# Altium integrated library TI Data Converters Analog to Digital Converter.IntLib: 2198 symbols (part 10 of 164)
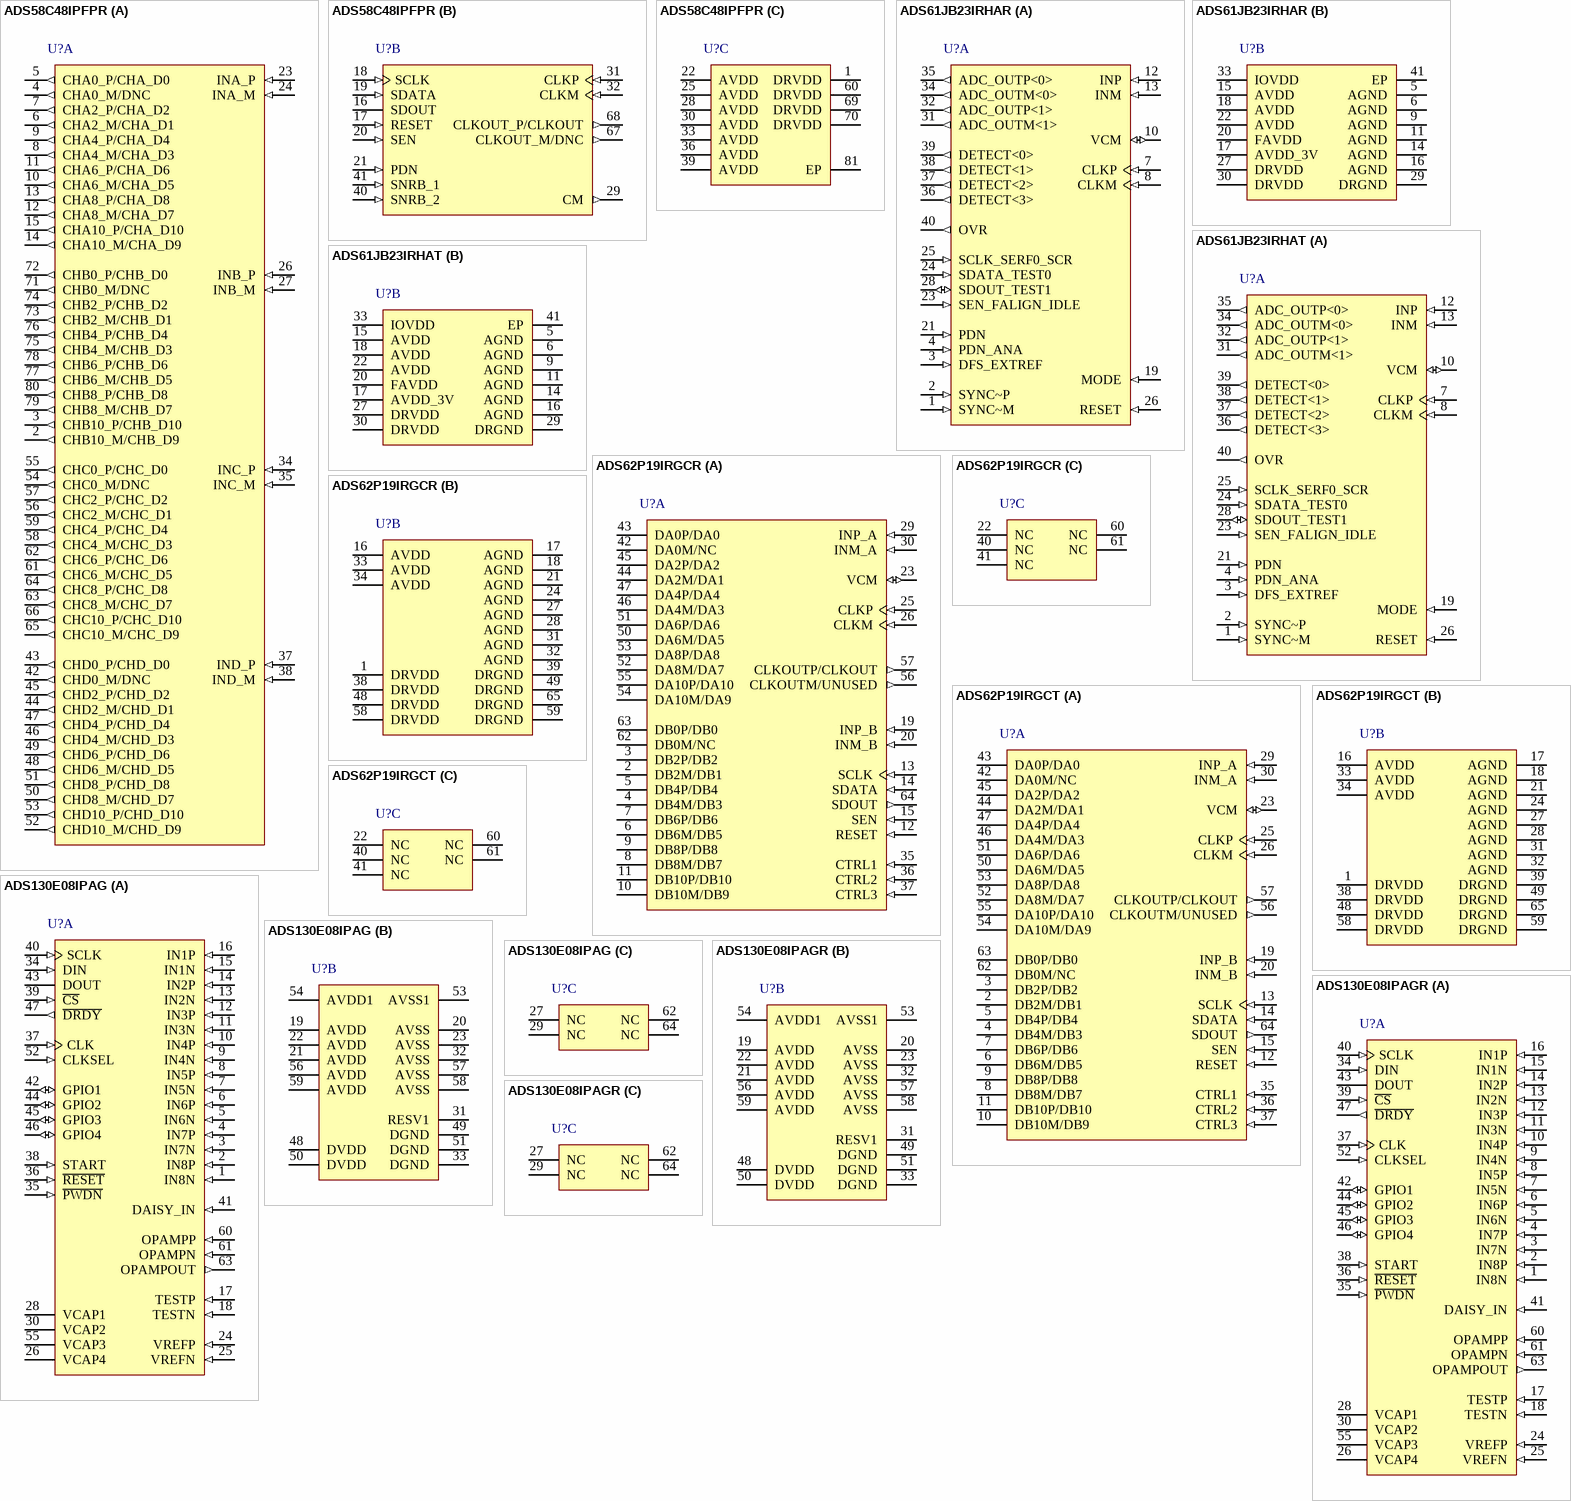
[diagram p135: symbols ADS58C48IPFPR to ADS130E08IPAGR]

## ADS62P19IRGCT
designator U?
Dual Channel 11-Bit, 250 MSPS ADC with DDR LVDS and Parallel CMOS Output, -40 to 85 degC, 64-pin QFN (RGC64), Green (RoHS & no Sb/Br); Manufacturer: Texas Instruments; PartNumber: ADS62P19IRGCT; # Input Channels: 2; Analog Voltage AV/DD(Max)(V): 3.6; Analog Voltage AV/DD(Min)(V): 3.15; Architecture: Pipeline; Digital Supply(Max)(V): 1.9; Digital Supply(Min)(V): 1.7; ENOB(Bits): 10.6; INL(Max)(+/-LSB): 2.5; Interface: CMOS, DDR LVDS; Resolution(Bits): 11; Sample Rate(max)(SPS): 250M; SFDR(dB): 89; SINAD(dB): 66.5; SubFamily: High Speed ADC (>10MSPS); DatasheetVersion: SLAS937; PackageVersion: 4204106/F, 11/2011; PackageReference: RGC64-7400X7400TP; PackageDescription: 64-Pin Plastic Quad Flatpack No-Lead, Body 9 x 9 mm, Pitch 0.5 mm; Supplier 1: Digi-Key; Supplier Part Number 1: ADS1110A5IDBVR-ND; Eco-Plan: Green (RoHS & no Sb/Br); SNR(dB): 66.5; Mounting Technology: Surface Mount; ComponentLink1Description: Manufacturer URL; ComponentLink1URL: http://www.ti.com/; ComponentLink2Description: Datasheet; ComponentLink2URL: http://www.ti.com/lit/ds/symlink/ads62p19.pdf; ComponentLink3Description: Package Specification; ComponentLink3URL: http://www.ti.com/litv/pdf/mpqf125e
footprint TI-RGC64-7400X7400TP_V (QFN, 64-Leads, Body 9x9mm, Pitch 0.5mm, Thermal Pad 7.4x7.4mm, TI Recommended)
part A pins: 2 DB2M/DB1 (hiz), 3 DB2P/DB2 (hiz), 4 DB4M/DB3 (hiz), 5 DB4P/DB4 (hiz), 6 DB6M/DB5 (hiz), 7 DB6P/DB6 (hiz), 8 DB8M/DB7 (hiz), 9 DB8P/DB8 (hiz), 10 DB10M/DB9 (hiz), 11 DB10P/DB10 (hiz), 12 RESET (in) "Serial interface RESET input. When using the serial interface mode, the internal registers must be initialized through a hardware RESET by applying a high-going pulse on this pin or by using a software reset option. Refer to (See Datasheet)", 13 SCLK (in) "This pin functions as a serial interface clock input when RESET is low. SCLK controls the internal or external reference selection when RESET is tied high. See Table 8 for detailed information. This pin has an internal 100-k (See Datasheet)", 14 SDATA (in) "Serial interface data input. This pin has an internal 100-k ohm pull-down resistor. SDATA has no function in parallel interface mode and can be tied to ground.", 15 SEN (in) "This pin functions as a serial interface enable input when RESET is low. SEN controls data format and interface type selection when RESET is tied high. See Table 9 for detailed information. This pin has an internal 100-k ohm (See Datasheet)", 19 INP_B (in) "Differential analog input, channel B", 20 INM_B (in) "Differential analog input, channel B", 23 VCM (io) "Internal reference mode. Common-mode voltage output. External reference mode. Reference input; the voltage forced on this pin sets the internal references.", 25 CLKP (in) "Differential clock input", 26 CLKM (in) "Differential clock input", 29 INP_A (in) "Differential analog input, channel A", 30 INM_A (in) "Differential analog input, channel A", 35 CTRL1 (in) "Digital control input pins. Together, these pins control various power-down modes. Each pin has an internal 100-k ohm pull-down resistor.", 36 CTRL2 (in) "Digital control input pins. Together, these pins control various power-down modes. Each pin has an internal 100-k ohm pull-down resistor.", 37 CTRL3 (in) "Digital control input pins. Together, these pins control various power-down modes. Each pin has an internal 100-k ohm pull-down resistor.", 42 DA0M/NC (hiz), 43 DA0P/DA0 (hiz), 44 DA2M/DA1 (hiz), 45 DA2P/DA2 (hiz), 46 DA4M/DA3 (hiz), 47 DA4P/DA4 (hiz), 50 DA6M/DA5 (hiz), 51 DA6P/DA6 (hiz), 52 DA8M/DA7 (hiz), 53 DA8P/DA8 (hiz), 54 DA10M/DA9 (hiz), 55 DA10P/DA10 (hiz), 56 CLKOUTM/UNUSED (out), 57 CLKOUTP/CLKOUT (out) "Differential output clock, true", 62 DB0M/NC (hiz), 63 DB0P/DB0 (hiz), 64 SDOUT (out) "This pin functions as a serial interface register readout when the SERIAL READOUT bit is enabled. When SERIAL READOUT is '0', this pin forces a logic low and is not 3- stated."
part B pins: 1 DRVDD (power) "Output buffer supply", 16 AVDD (power) "Analog power supply", 17 AGND (power) "Analog ground", 18 AGND (power) "Analog ground", 21 AGND (power) "Analog ground", 24 AGND (power) "Analog ground", 27 AGND (power) "Analog ground", 28 AGND (power) "Analog ground", 31 AGND (power) "Analog ground", 32 AGND (power) "Analog ground", 33 AVDD (power) "Analog power supply", 34 AVDD (power) "Analog power supply", 38 DRVDD (power) "Output buffer supply", 39 DRGND (power) "Output buffer ground", 48 DRVDD (power) "Output buffer supply", 49 DRGND (power) "Output buffer ground", 58 DRVDD (power) "Output buffer supply", 59 DRGND (power) "Output buffer ground", 65 DRGND (power) "Output buffer ground"
part C pins: 22 NC "Do not connect", 40 NC "Do not connect", 41 NC "Do not connect", 60 NC "Do not connect", 61 NC "Do not connect"

## ADS130E08IPAG
designator U?
Low-Cost, 8-Channel, Integrated Analog Front-End for Metering Applications, -40 to 105 degC, 64-pin QFP (PAG64), Green (RoHS & no Sb/Br); Manufacturer: Texas Instruments; PartNumber: ADS130E08IPAG; # Input Channels: 8; Analog Voltage AV/DD(Max)(V): 5.25; Analog Voltage AV/DD(Min)(V): 2.7; Architecture: Delta-Sigma; Digital Supply(Max)(V): 3.6; Digital Supply(Min)(V): 1.7; Interface: Serial SPI; Resolution(Bits): 16; Sample Rate(max)(SPS): 8k; SNR(dB): 89; SubFamily: Precision ADC (<=10MSPS); DatasheetVersion: SBAS574A; PackageVersion: 4040282/C, 11/1996; PackageReference: PAG64; PackageDescription: 64-Pin Plastic Flat Pack, Body 10 x 10 mm, Pitch 0.50 mm; Supplier 1: Digi-Key; Supplier Part Number 1: ADS1110A5IDBVRG4-ND; Eco-Plan: Green (RoHS & no Sb/Br); Mounting Technology: Surface Mount; Code_JEDEC: MS-026; ComponentLink1Description: Manufacturer URL; ComponentLink1URL: http://www.ti.com/; ComponentLink2Description: Datasheet; ComponentLink2URL: http://www.ti.com/lit/ds/symlink/ads130e08.pdf; ComponentLink3Description: Package Specification; ComponentLink3URL: http://www.ti.com/lit/ml/mtqf006a/mtqf006a.pdf
footprint TI-PAG64_N (QFP, 64-Leads, Body 10x10mm, Pitch 0.5mm, IPC Medium Density)
footprint TI-PAG64_L (QFP, 64-Leads, Body 10x10mm, Pitch 0.5mm, IPC High Density)
footprint TI-PAG64_M (QFP, 64-Leads, Body 10x10mm, Pitch 0.5mm, IPC Low Density)
part A pins: 1 IN8N (in) "Differential analog negative input 8", 2 IN8P (in) "Differential analog positive input 8", 3 IN7N (in) "Differential analog negative input 7", 4 IN7P (in) "Differential analog positive input 7", 5 IN6N (in) "Differential analog negative input 6", 6 IN6P (in) "Differential analog positive input 6", 7 IN5N (in) "Differential analog negative input 5", 8 IN5P (in) "Differential analog positive input 5", 9 IN4N (in) "Differential analog negative input 4", 10 IN4P (in) "Differential analog positive input 4", 11 IN3N (in) "Differential analog negative input 3", 12 IN3P (in) "Differential analog positive input 3", 13 IN2N (in) "Differential analog negative input 2", 14 IN2P (in) "Differential analog positive input 2", 15 IN1N (in) "Differential analog negative input 1", 16 IN1P (in) "Differential analog positive input 1", 17 TESTP (in) "Internal test signal, positive signal", 18 TESTN (in) "Internal test signal, negative signal", 24 VREFP (in) "Positive reference voltage", 25 VREFN (in) "Negative reference voltage", 26 VCAP4 "Analog bypass capacitor", 28 VCAP1 "Analog bypass capacitor", 30 VCAP2 "Analog bypass capacitor", 34 DIN (in) "SPI data in", 35 ~{PWDN} (in) "Power-down; active low", 36 ~{RESET} (in) "System reset; active low", 37 CLK (in) "Master clock input", 38 START (in) "Start conversion", 39 ~{CS} (in) "SPI chip select; active low", 40 SCLK (in) "SPI clock", 41 DAISY_IN (in) "Daisy-chain input", 42 GPIO1 (io) "General-purpose input/output pin", 43 DOUT (hiz) "SPI data out", 44 GPIO2 (io) "General-purpose input/output pin", 45 GPIO3 (io) "General-purpose input/output pin", 46 GPIO4 (io) "General-purpose input/output pin", 47 ~{DRDY} (out) "Data ready; active low", 52 CLKSEL (in) "Master clock select", 55 VCAP3 "Analog bypass capacitor", 60 OPAMPP (in) "Op amp noninverting input", 61 OPAMPN (in) "Op amp inverting input", 63 OPAMPOUT (out) "Op amp output"
part B pins: 19 AVDD (power) "Analog supply", 20 AVSS (power) "Analog ground", 21 AVDD (power) "Analog supply", 22 AVDD (power) "Analog supply", 23 AVSS (power) "Analog ground", 31 RESV1 (power) "Reserved for future use; must tie to logic low (DGND)", 32 AVSS (power) "Analog ground", 33 DGND (power) "Digital ground", 48 DVDD (power) "Digital power supply", 49 DGND (power) "Digital ground", 50 DVDD (power) "Digital power supply", 51 DGND (power) "Digital ground", 53 AVSS1 (power) "Charge pump analog ground", 54 AVDD1 (power) "Charge pump analog supply", 56 AVDD (power) "Analog supply", 57 AVSS (power) "Analog ground", 58 AVSS (power) "Analog ground", 59 AVDD (power) "Analog supply"
part C pins: 27 NC "No connection, leave floating", 29 NC "No connection, leave floating", 62 NC "No connection, leave floating", 64 NC "No connection, leave floating"

## ADS130E08IPAGR
designator U?
Low-Cost, 8-Channel, Integrated Analog Front-End for Metering Applications, -40 to 105 degC, 64-pin QFP (PAG64), Green (RoHS & no Sb/Br); Manufacturer: Texas Instruments; PartNumber: ADS130E08IPAGR; # Input Channels: 8; Analog Voltage AV/DD(Max)(V): 5.25; Analog Voltage AV/DD(Min)(V): 2.7; Architecture: Delta-Sigma; Digital Supply(Max)(V): 3.6; Digital Supply(Min)(V): 1.7; Interface: Serial SPI; Resolution(Bits): 16; Sample Rate(max)(SPS): 8k; SNR(dB): 89; SubFamily: Precision ADC (<=10MSPS); DatasheetVersion: SBAS574A; PackageVersion: 4040282/C, 11/1996; PackageReference: PAG64; PackageDescription: 64-Pin Plastic Flat Pack, Body 10 x 10 mm, Pitch 0.50 mm; Supplier 1: Digi-Key; Supplier Part Number 1: 296-14466-2-ND; Eco-Plan: Green (RoHS & no Sb/Br); Mounting Technology: Surface Mount; Code_JEDEC: MS-026; ComponentLink1Description: Manufacturer URL; ComponentLink1URL: http://www.ti.com/; ComponentLink2Description: Datasheet; ComponentLink2URL: http://www.ti.com/lit/ds/symlink/ads130e08.pdf; ComponentLink3Description: Package Specification; ComponentLink3URL: http://www.ti.com/lit/ml/mtqf006a/mtqf006a.pdf
footprint TI-PAG64_N (QFP, 64-Leads, Body 10x10mm, Pitch 0.5mm, IPC Medium Density)
footprint TI-PAG64_L (QFP, 64-Leads, Body 10x10mm, Pitch 0.5mm, IPC High Density)
footprint TI-PAG64_M (QFP, 64-Leads, Body 10x10mm, Pitch 0.5mm, IPC Low Density)
part A pins: 1 IN8N (in) "Differential analog negative input 8", 2 IN8P (in) "Differential analog positive input 8", 3 IN7N (in) "Differential analog negative input 7", 4 IN7P (in) "Differential analog positive input 7", 5 IN6N (in) "Differential analog negative input 6", 6 IN6P (in) "Differential analog positive input 6", 7 IN5N (in) "Differential analog negative input 5", 8 IN5P (in) "Differential analog positive input 5", 9 IN4N (in) "Differential analog negative input 4", 10 IN4P (in) "Differential analog positive input 4", 11 IN3N (in) "Differential analog negative input 3", 12 IN3P (in) "Differential analog positive input 3", 13 IN2N (in) "Differential analog negative input 2", 14 IN2P (in) "Differential analog positive input 2", 15 IN1N (in) "Differential analog negative input 1", 16 IN1P (in) "Differential analog positive input 1", 17 TESTP (in) "Internal test signal, positive signal", 18 TESTN (in) "Internal test signal, negative signal", 24 VREFP (in) "Positive reference voltage", 25 VREFN (in) "Negative reference voltage", 26 VCAP4 "Analog bypass capacitor", 28 VCAP1 "Analog bypass capacitor", 30 VCAP2 "Analog bypass capacitor", 34 DIN (in) "SPI data in", 35 ~{PWDN} (in) "Power-down; active low", 36 ~{RESET} (in) "System reset; active low", 37 CLK (in) "Master clock input", 38 START (in) "Start conversion", 39 ~{CS} (in) "SPI chip select; active low", 40 SCLK (in) "SPI clock", 41 DAISY_IN (in) "Daisy-chain input", 42 GPIO1 (io) "General-purpose input/output pin", 43 DOUT (hiz) "SPI data out", 44 GPIO2 (io) "General-purpose input/output pin", 45 GPIO3 (io) "General-purpose input/output pin", 46 GPIO4 (io) "General-purpose input/output pin", 47 ~{DRDY} (out) "Data ready; active low", 52 CLKSEL (in) "Master clock select", 55 VCAP3 "Analog bypass capacitor", 60 OPAMPP (in) "Op amp noninverting input", 61 OPAMPN (in) "Op amp inverting input", 63 OPAMPOUT (out) "Op amp output"
part B pins: 19 AVDD (power) "Analog supply", 20 AVSS (power) "Analog ground", 21 AVDD (power) "Analog supply", 22 AVDD (power) "Analog supply", 23 AVSS (power) "Analog ground", 31 RESV1 (power) "Reserved for future use; must tie to logic low (DGND)", 32 AVSS (power) "Analog ground", 33 DGND (power) "Digital ground", 48 DVDD (power) "Digital power supply", 49 DGND (power) "Digital ground", 50 DVDD (power) "Digital power supply", 51 DGND (power) "Digital ground", 53 AVSS1 (power) "Charge pump analog ground", 54 AVDD1 (power) "Charge pump analog supply", 56 AVDD (power) "Analog supply", 57 AVSS (power) "Analog ground", 58 AVSS (power) "Analog ground", 59 AVDD (power) "Analog supply"
part C pins: 27 NC "No connection, leave floating", 29 NC "No connection, leave floating", 62 NC "No connection, leave floating", 64 NC "No connection, leave floating"

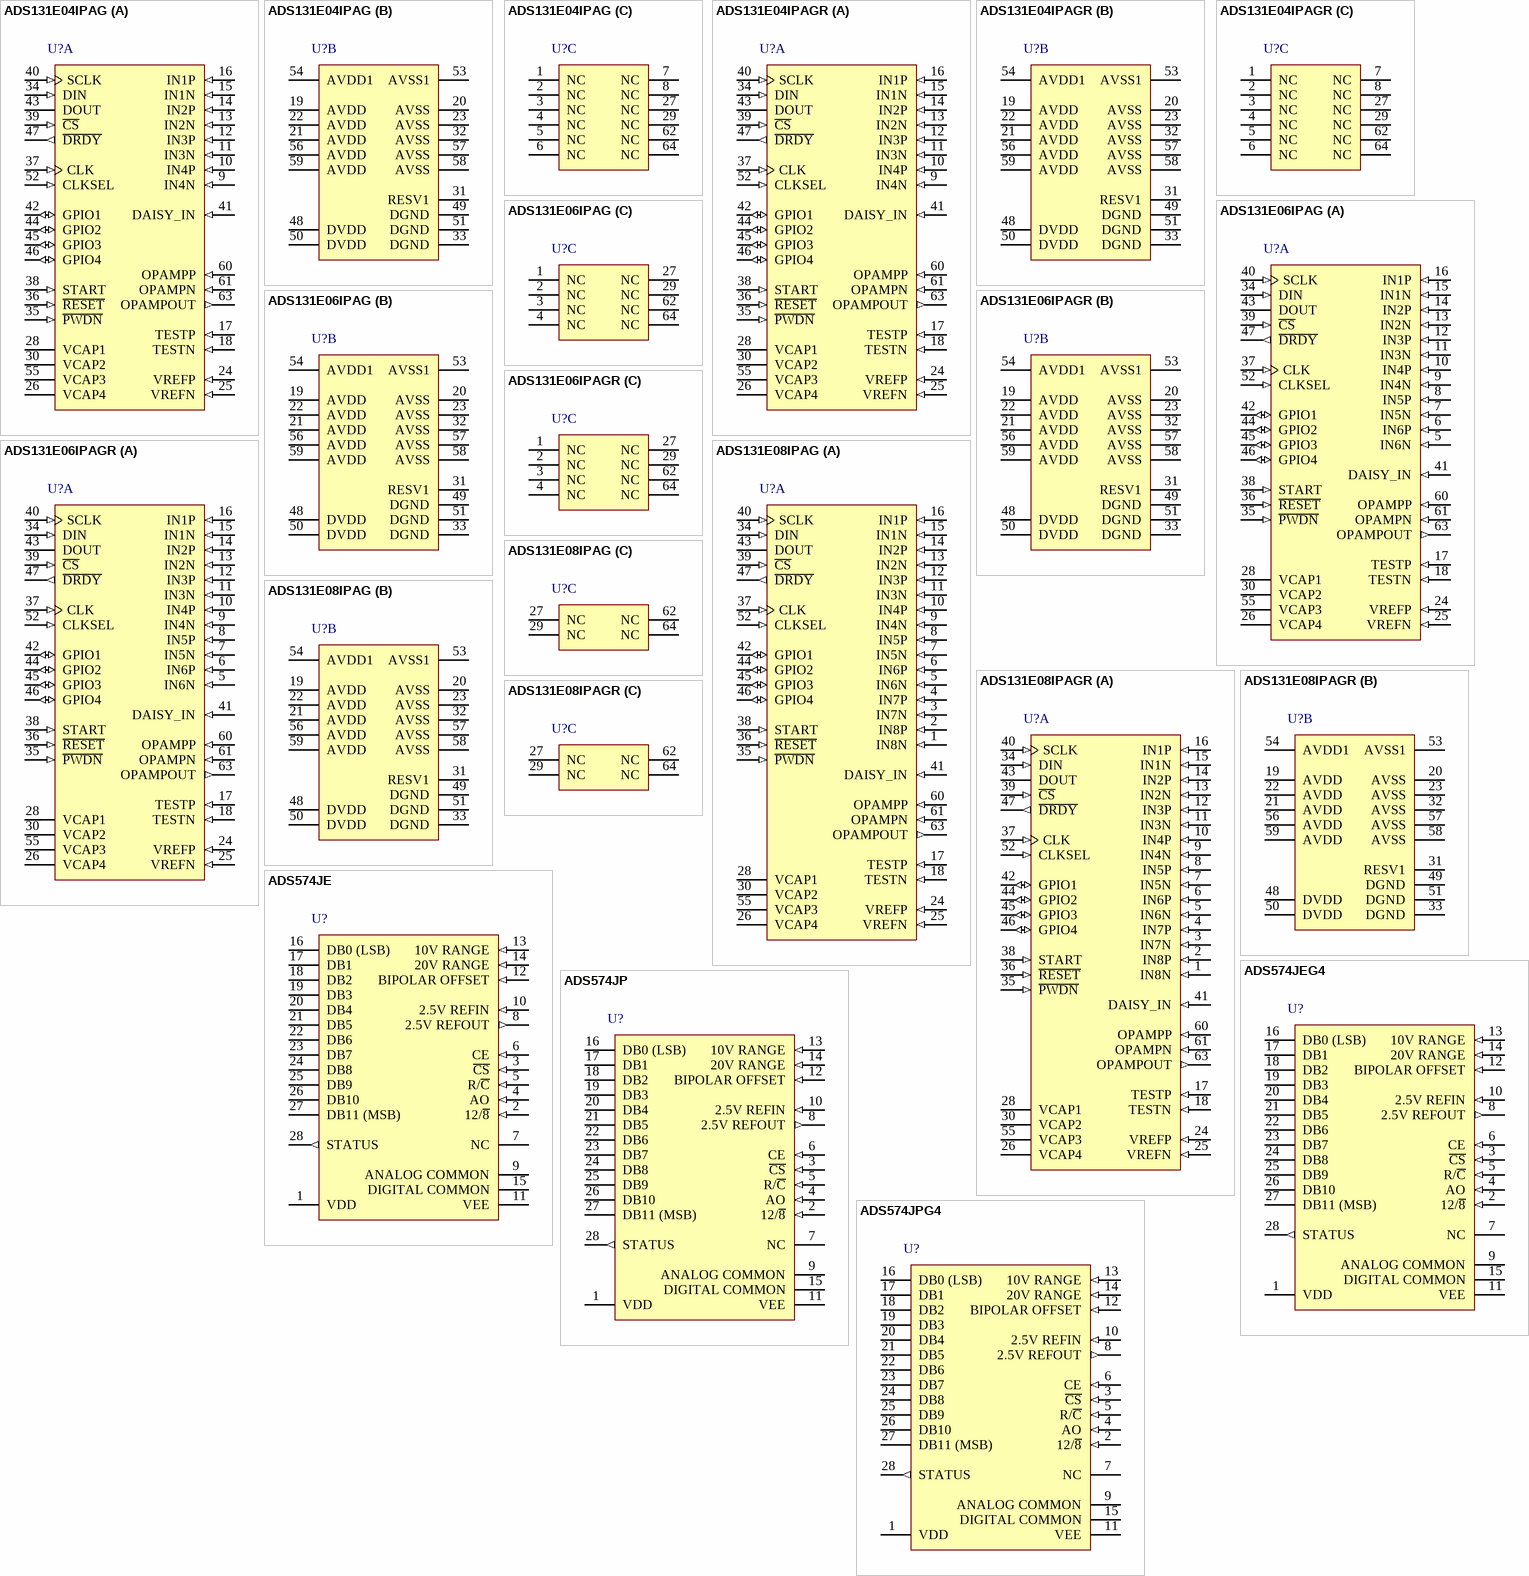
[diagram p6: symbols ADS131E04IPAG to ADS574JPG4]

## ADS131E04IPAG
designator U?
Analog Front-End for Power Monitoring, Control and Protection, -40 to 105 degC, 64-pin QFP (PAG64), Green (RoHS & no Sb/Br); Manufacturer: Texas Instruments; PartNumber: ADS131E04IPAG; # Input Channels: 4; Analog Voltage AV/DD(Max)(V): 5.25; Analog Voltage AV/DD(Min)(V): 2.7; Architecture: Delta-Sigma; Digital Supply(Max)(V): 3.6; Digital Supply(Min)(V): 1.8; Interface: Serial SPI; Resolution(Bits): 16; Sample Rate(max)(SPS): 64k; SNR(dB): 107; SubFamily: Precision ADC (<=10MSPS); DatasheetVersion: SBAS561A; PackageVersion: 4040282/C, 11/1996; PackageReference: PAG64; PackageDescription: 64-Pin Plastic Flat Pack, Body 10 x 10 mm, Pitch 0.50 mm; Supplier 1: Digi-Key; Supplier Part Number 1: ADS1110A5IDBVTG4-ND; Eco-Plan: Green (RoHS & no Sb/Br); Mounting Technology: Surface Mount; Code_JEDEC: MS-026; ComponentLink1Description: Manufacturer URL; ComponentLink1URL: http://www.ti.com/; ComponentLink2Description: Datasheet; ComponentLink2URL: http://www.ti.com/lit/ds/symlink/ads131e04.pdf; ComponentLink3Description: Package Specification; ComponentLink3URL: http://www.ti.com/lit/ml/mtqf006a/mtqf006a.pdf
footprint TI-PAG64_N (QFP, 64-Leads, Body 10x10mm, Pitch 0.5mm, IPC Medium Density)
footprint TI-PAG64_L (QFP, 64-Leads, Body 10x10mm, Pitch 0.5mm, IPC High Density)
footprint TI-PAG64_M (QFP, 64-Leads, Body 10x10mm, Pitch 0.5mm, IPC Low Density)
part A pins: 9 IN4N (in) "Differential analog negative input 4", 10 IN4P (in) "Differential analog positive input 4", 11 IN3N (in) "Differential analog negative input 3", 12 IN3P (in) "Differential analog positive input 3", 13 IN2N (in) "Differential analog negative input 2", 14 IN2P (in) "Differential analog positive input 2", 15 IN1N (in) "Differential analog negative input 1", 16 IN1P (in) "Differential analog positive input 1", 17 TESTP (in) "Internal test signal, positive signal", 18 TESTN (in) "Internal test signal, negative signal", 24 VREFP (in) "Positive reference voltage", 25 VREFN (in) "Negative reference voltage", 26 VCAP4 "Analog bypass capacitor", 28 VCAP1 "Analog bypass capacitor", 30 VCAP2 "Analog bypass capacitor", 34 DIN (in) "SPI data in", 35 ~{PWDN} (in) "Power-down; active low", 36 ~{RESET} (in) "System reset; active low", 37 CLK (in) "Master clock input", 38 START (in) "Start conversion", 39 ~{CS} (in) "SPI chip select; active low", 40 SCLK (in) "SPI clock", 41 DAISY_IN (in) "Daisy-chain input", 42 GPIO1 (io) "General-purpose input/output pin", 43 DOUT (hiz) "SPI data out", 44 GPIO2 (io) "General-purpose input/output pin", 45 GPIO3 (io) "General-purpose input/output pin", 46 GPIO4 (io) "General-purpose input/output pin", 47 ~{DRDY} (out) "Data ready; active low", 52 CLKSEL (in) "Master clock select", 55 VCAP3 "Analog bypass capacitor", 60 OPAMPP (in) "Op amp noninverting input", 61 OPAMPN (in) "Op amp inverting input", 63 OPAMPOUT (out) "Op amp output"
part B pins: 19 AVDD (power) "Analog supply", 20 AVSS (power) "Analog ground", 21 AVDD (power) "Analog supply", 22 AVDD (power) "Analog supply", 23 AVSS (power) "Analog ground", 31 RESV1 (power) "Reserved for future use; must tie to logic low (DGND)", 32 AVSS (power) "Analog ground", 33 DGND (power) "Digital ground", 48 DVDD (power) "Digital power supply", 49 DGND (power) "Digital ground", 50 DVDD (power) "Digital power supply", 51 DGND (power) "Digital ground", 53 AVSS1 (power) "Charge pump analog ground", 54 AVDD1 (power) "Charge pump analog supply", 56 AVDD (power) "Analog supply", 57 AVSS (power) "Analog ground", 58 AVSS (power) "Analog ground", 59 AVDD (power) "Analog supply"
part C pins: 1 NC "No connection, leave floating", 2 NC "No connection, leave floating", 3 NC "No connection, leave floating", 4 NC "No connection, leave floating", 5 NC "No connection, leave floating", 6 NC "No connection, leave floating", 7 NC "No connection, leave floating", 8 NC "No connection, leave floating", 27 NC "No connection, leave floating", 29 NC "No connection, leave floating", 62 NC "No connection, leave floating", 64 NC "No connection, leave floating"

## ADS131E04IPAGR
designator U?
Analog Front-End for Power Monitoring, Control and Protection, -40 to 105 degC, 64-pin QFP (PAG64), Green (RoHS & no Sb/Br); Manufacturer: Texas Instruments; PartNumber: ADS131E04IPAGR; # Input Channels: 4; Analog Voltage AV/DD(Max)(V): 5.25; Analog Voltage AV/DD(Min)(V): 2.7; Architecture: Delta-Sigma; Digital Supply(Max)(V): 3.6; Digital Supply(Min)(V): 1.8; Interface: Serial SPI; Resolution(Bits): 16; Sample Rate(max)(SPS): 64k; SNR(dB): 107; SubFamily: Precision ADC (<=10MSPS); DatasheetVersion: SBAS561A; PackageVersion: 4040282/C, 11/1996; PackageReference: PAG64; PackageDescription: 64-Pin Plastic Flat Pack, Body 10 x 10 mm, Pitch 0.50 mm; Supplier 1: Digi-Key; Supplier Part Number 1: 296-14467-2-ND; Eco-Plan: Green (RoHS & no Sb/Br); Mounting Technology: Surface Mount; Code_JEDEC: MS-026; ComponentLink1Description: Manufacturer URL; ComponentLink1URL: http://www.ti.com/; ComponentLink2Description: Datasheet; ComponentLink2URL: http://www.ti.com/lit/ds/symlink/ads131e04.pdf; ComponentLink3Description: Package Specification; ComponentLink3URL: http://www.ti.com/lit/ml/mtqf006a/mtqf006a.pdf
footprint TI-PAG64_N (QFP, 64-Leads, Body 10x10mm, Pitch 0.5mm, IPC Medium Density)
footprint TI-PAG64_L (QFP, 64-Leads, Body 10x10mm, Pitch 0.5mm, IPC High Density)
footprint TI-PAG64_M (QFP, 64-Leads, Body 10x10mm, Pitch 0.5mm, IPC Low Density)
part A pins: 9 IN4N (in) "Differential analog negative input 4", 10 IN4P (in) "Differential analog positive input 4", 11 IN3N (in) "Differential analog negative input 3", 12 IN3P (in) "Differential analog positive input 3", 13 IN2N (in) "Differential analog negative input 2", 14 IN2P (in) "Differential analog positive input 2", 15 IN1N (in) "Differential analog negative input 1", 16 IN1P (in) "Differential analog positive input 1", 17 TESTP (in) "Internal test signal, positive signal", 18 TESTN (in) "Internal test signal, negative signal", 24 VREFP (in) "Positive reference voltage", 25 VREFN (in) "Negative reference voltage", 26 VCAP4 "Analog bypass capacitor", 28 VCAP1 "Analog bypass capacitor", 30 VCAP2 "Analog bypass capacitor", 34 DIN (in) "SPI data in", 35 ~{PWDN} (in) "Power-down; active low", 36 ~{RESET} (in) "System reset; active low", 37 CLK (in) "Master clock input", 38 START (in) "Start conversion", 39 ~{CS} (in) "SPI chip select; active low", 40 SCLK (in) "SPI clock", 41 DAISY_IN (in) "Daisy-chain input", 42 GPIO1 (io) "General-purpose input/output pin", 43 DOUT (hiz) "SPI data out", 44 GPIO2 (io) "General-purpose input/output pin", 45 GPIO3 (io) "General-purpose input/output pin", 46 GPIO4 (io) "General-purpose input/output pin", 47 ~{DRDY} (out) "Data ready; active low", 52 CLKSEL (in) "Master clock select", 55 VCAP3 "Analog bypass capacitor", 60 OPAMPP (in) "Op amp noninverting input", 61 OPAMPN (in) "Op amp inverting input", 63 OPAMPOUT (out) "Op amp output"
part B pins: 19 AVDD (power) "Analog supply", 20 AVSS (power) "Analog ground", 21 AVDD (power) "Analog supply", 22 AVDD (power) "Analog supply", 23 AVSS (power) "Analog ground", 31 RESV1 (power) "Reserved for future use; must tie to logic low (DGND)", 32 AVSS (power) "Analog ground", 33 DGND (power) "Digital ground", 48 DVDD (power) "Digital power supply", 49 DGND (power) "Digital ground", 50 DVDD (power) "Digital power supply", 51 DGND (power) "Digital ground", 53 AVSS1 (power) "Charge pump analog ground", 54 AVDD1 (power) "Charge pump analog supply", 56 AVDD (power) "Analog supply", 57 AVSS (power) "Analog ground", 58 AVSS (power) "Analog ground", 59 AVDD (power) "Analog supply"
part C pins: 1 NC "No connection, leave floating", 2 NC "No connection, leave floating", 3 NC "No connection, leave floating", 4 NC "No connection, leave floating", 5 NC "No connection, leave floating", 6 NC "No connection, leave floating", 7 NC "No connection, leave floating", 8 NC "No connection, leave floating", 27 NC "No connection, leave floating", 29 NC "No connection, leave floating", 62 NC "No connection, leave floating", 64 NC "No connection, leave floating"

## ADS131E06IPAG
designator U?
Analog Front-End for Power Monitoring, Control and Protection, -40 to 105 degC, 64-pin QFP (PAG64), Green (RoHS & no Sb/Br); Manufacturer: Texas Instruments; PartNumber: ADS131E06IPAG; # Input Channels: 6; Analog Voltage AV/DD(Max)(V): 5.25; Analog Voltage AV/DD(Min)(V): 2.7; Architecture: Delta-Sigma; Digital Supply(Max)(V): 3.6; Digital Supply(Min)(V): 1.8; Interface: Serial SPI; Resolution(Bits): 16; Sample Rate(max)(SPS): 64k; SNR(dB): 107; SubFamily: Precision ADC (<=10MSPS); DatasheetVersion: SBAS561A; PackageVersion: 4040282/C, 11/1996; PackageReference: PAG64; PackageDescription: 64-Pin Plastic Flat Pack, Body 10 x 10 mm, Pitch 0.50 mm; Supplier 1: Digi-Key; Supplier Part Number 1: ADS1110A6IDBVTG4-ND; Eco-Plan: Green (RoHS & no Sb/Br); Mounting Technology: Surface Mount; Code_JEDEC: MS-026; ComponentLink1Description: Manufacturer URL; ComponentLink1URL: http://www.ti.com/; ComponentLink2Description: Datasheet; ComponentLink2URL: http://www.ti.com/lit/ds/symlink/ads131e06.pdf; ComponentLink3Description: Package Specification; ComponentLink3URL: http://www.ti.com/lit/ml/mtqf006a/mtqf006a.pdf
footprint TI-PAG64_N (QFP, 64-Leads, Body 10x10mm, Pitch 0.5mm, IPC Medium Density)
footprint TI-PAG64_L (QFP, 64-Leads, Body 10x10mm, Pitch 0.5mm, IPC High Density)
footprint TI-PAG64_M (QFP, 64-Leads, Body 10x10mm, Pitch 0.5mm, IPC Low Density)
part A pins: 5 IN6N (in) "Differential analog negative input 6 (ADS131E06 and ADS131E08 only)", 6 IN6P (in) "Differential analog positive input 6 (ADS131E06 and ADS131E08 only)", 7 IN5N (in) "Differential analog negative input 5 (ADS131E06 and ADS131E08 only)", 8 IN5P (in) "Differential analog positive input 5 (ADS131E06 and ADS131E08 only)", 9 IN4N (in) "Differential analog negative input 4", 10 IN4P (in) "Differential analog positive input 4", 11 IN3N (in) "Differential analog negative input 3", 12 IN3P (in) "Differential analog positive input 3", 13 IN2N (in) "Differential analog negative input 2", 14 IN2P (in) "Differential analog positive input 2", 15 IN1N (in) "Differential analog negative input 1", 16 IN1P (in) "Differential analog positive input 1", 17 TESTP (in) "Internal test signal, positive signal", 18 TESTN (in) "Internal test signal, negative signal", 24 VREFP (in) "Positive reference voltage", 25 VREFN (in) "Negative reference voltage", 26 VCAP4 "Analog bypass capacitor", 28 VCAP1 "Analog bypass capacitor", 30 VCAP2 "Analog bypass capacitor", 34 DIN (in) "SPI data in", 35 ~{PWDN} (in) "Power-down; active low", 36 ~{RESET} (in) "System reset; active low", 37 CLK (in) "Master clock input", 38 START (in) "Start conversion", 39 ~{CS} (in) "SPI chip select; active low", 40 SCLK (in) "SPI clock", 41 DAISY_IN (in) "Daisy-chain input", 42 GPIO1 (io) "General-purpose input/output pin", 43 DOUT (hiz) "SPI data out", 44 GPIO2 (io) "General-purpose input/output pin", 45 GPIO3 (io) "General-purpose input/output pin", 46 GPIO4 (io) "General-purpose input/output pin", 47 ~{DRDY} (out) "Data ready; active low", 52 CLKSEL (in) "Master clock select", 55 VCAP3 "Analog bypass capacitor", 60 OPAMPP (in) "Op amp noninverting input", 61 OPAMPN (in) "Op amp inverting input", 63 OPAMPOUT (out) "Op amp output"
part B pins: 19 AVDD (power) "Analog supply", 20 AVSS (power) "Analog ground", 21 AVDD (power) "Analog supply", 22 AVDD (power) "Analog supply", 23 AVSS (power) "Analog ground", 31 RESV1 (power) "Reserved for future use; must tie to logic low (DGND)", 32 AVSS (power) "Analog ground", 33 DGND (power) "Digital ground", 48 DVDD (power) "Digital power supply", 49 DGND (power) "Digital ground", 50 DVDD (power) "Digital power supply", 51 DGND (power) "Digital ground", 53 AVSS1 (power) "Charge pump analog ground", 54 AVDD1 (power) "Charge pump analog supply", 56 AVDD (power) "Analog supply", 57 AVSS (power) "Analog ground", 58 AVSS (power) "Analog ground", 59 AVDD (power) "Analog supply"
part C pins: 1 NC "No connection, leave floating", 2 NC "No connection, leave floating", 3 NC "No connection, leave floating", 4 NC "No connection, leave floating", 27 NC "No connection, leave floating", 29 NC "No connection, leave floating", 62 NC "No connection, leave floating", 64 NC "No connection, leave floating"

## ADS131E06IPAGR
designator U?
Analog Front-End for Power Monitoring, Control and Protection, -40 to 105 degC, 64-pin QFP (PAG64), Green (RoHS & no Sb/Br); Manufacturer: Texas Instruments; PartNumber: ADS131E06IPAGR; # Input Channels: 6; Analog Voltage AV/DD(Max)(V): 5.25; Analog Voltage AV/DD(Min)(V): 2.7; Architecture: Delta-Sigma; Digital Supply(Max)(V): 3.6; Digital Supply(Min)(V): 1.8; Interface: Serial SPI; Resolution(Bits): 16; Sample Rate(max)(SPS): 64k; SNR(dB): 107; SubFamily: Precision ADC (<=10MSPS); DatasheetVersion: SBAS561A; PackageVersion: 4040282/C, 11/1996; PackageReference: PAG64; PackageDescription: 64-Pin Plastic Flat Pack, Body 10 x 10 mm, Pitch 0.50 mm; Supplier 1: Digi-Key; Supplier Part Number 1: ADS1110A7IDBVR-ND; Eco-Plan: Green (RoHS & no Sb/Br); Mounting Technology: Surface Mount; Code_JEDEC: MS-026; ComponentLink1Description: Manufacturer URL; ComponentLink1URL: http://www.ti.com/; ComponentLink2Description: Datasheet; ComponentLink2URL: http://www.ti.com/lit/ds/symlink/ads131e06.pdf; ComponentLink3Description: Package Specification; ComponentLink3URL: http://www.ti.com/lit/ml/mtqf006a/mtqf006a.pdf
footprint TI-PAG64_N (QFP, 64-Leads, Body 10x10mm, Pitch 0.5mm, IPC Medium Density)
footprint TI-PAG64_L (QFP, 64-Leads, Body 10x10mm, Pitch 0.5mm, IPC High Density)
footprint TI-PAG64_M (QFP, 64-Leads, Body 10x10mm, Pitch 0.5mm, IPC Low Density)
part A pins: 5 IN6N (in) "Differential analog negative input 6 (ADS131E06 and ADS131E08 only)", 6 IN6P (in) "Differential analog positive input 6 (ADS131E06 and ADS131E08 only)", 7 IN5N (in) "Differential analog negative input 5 (ADS131E06 and ADS131E08 only)", 8 IN5P (in) "Differential analog positive input 5 (ADS131E06 and ADS131E08 only)", 9 IN4N (in) "Differential analog negative input 4", 10 IN4P (in) "Differential analog positive input 4", 11 IN3N (in) "Differential analog negative input 3", 12 IN3P (in) "Differential analog positive input 3", 13 IN2N (in) "Differential analog negative input 2", 14 IN2P (in) "Differential analog positive input 2", 15 IN1N (in) "Differential analog negative input 1", 16 IN1P (in) "Differential analog positive input 1", 17 TESTP (in) "Internal test signal, positive signal", 18 TESTN (in) "Internal test signal, negative signal", 24 VREFP (in) "Positive reference voltage", 25 VREFN (in) "Negative reference voltage", 26 VCAP4 "Analog bypass capacitor", 28 VCAP1 "Analog bypass capacitor", 30 VCAP2 "Analog bypass capacitor", 34 DIN (in) "SPI data in", 35 ~{PWDN} (in) "Power-down; active low", 36 ~{RESET} (in) "System reset; active low", 37 CLK (in) "Master clock input", 38 START (in) "Start conversion", 39 ~{CS} (in) "SPI chip select; active low", 40 SCLK (in) "SPI clock", 41 DAISY_IN (in) "Daisy-chain input", 42 GPIO1 (io) "General-purpose input/output pin", 43 DOUT (hiz) "SPI data out", 44 GPIO2 (io) "General-purpose input/output pin", 45 GPIO3 (io) "General-purpose input/output pin", 46 GPIO4 (io) "General-purpose input/output pin", 47 ~{DRDY} (out) "Data ready; active low", 52 CLKSEL (in) "Master clock select", 55 VCAP3 "Analog bypass capacitor", 60 OPAMPP (in) "Op amp noninverting input", 61 OPAMPN (in) "Op amp inverting input", 63 OPAMPOUT (out) "Op amp output"
part B pins: 19 AVDD (power) "Analog supply", 20 AVSS (power) "Analog ground", 21 AVDD (power) "Analog supply", 22 AVDD (power) "Analog supply", 23 AVSS (power) "Analog ground", 31 RESV1 (power) "Reserved for future use; must tie to logic low (DGND)", 32 AVSS (power) "Analog ground", 33 DGND (power) "Digital ground", 48 DVDD (power) "Digital power supply", 49 DGND (power) "Digital ground", 50 DVDD (power) "Digital power supply", 51 DGND (power) "Digital ground", 53 AVSS1 (power) "Charge pump analog ground", 54 AVDD1 (power) "Charge pump analog supply", 56 AVDD (power) "Analog supply", 57 AVSS (power) "Analog ground", 58 AVSS (power) "Analog ground", 59 AVDD (power) "Analog supply"
part C pins: 1 NC "No connection, leave floating", 2 NC "No connection, leave floating", 3 NC "No connection, leave floating", 4 NC "No connection, leave floating", 27 NC "No connection, leave floating", 29 NC "No connection, leave floating", 62 NC "No connection, leave floating", 64 NC "No connection, leave floating"

## ADS131E08IPAG
designator U?
Analog Front-End for Power Monitoring, Control and Protection, -40 to 105 degC, 64-pin QFP (PAG64), Green (RoHS & no Sb/Br); Manufacturer: Texas Instruments; PartNumber: ADS131E08IPAG; # Input Channels: 8; Analog Voltage AV/DD(Max)(V): 5.25; Analog Voltage AV/DD(Min)(V): 2.7; Architecture: Delta-Sigma; Digital Supply(Max)(V): 3.6; Digital Supply(Min)(V): 1.8; Interface: Serial SPI; Resolution(Bits): 16; Sample Rate(max)(SPS): 64k; SNR(dB): 107; SubFamily: Precision ADC (<=10MSPS); DatasheetVersion: SBAS561A; PackageVersion: 4040282/C, 11/1996; PackageReference: PAG64; PackageDescription: 64-Pin Plastic Flat Pack, Body 10 x 10 mm, Pitch 0.50 mm; Supplier 1: Digi-Key; Supplier Part Number 1: ADS1110A7IDBVRG4-ND; Eco-Plan: Green (RoHS & no Sb/Br); Mounting Technology: Surface Mount; Code_JEDEC: MS-026; ComponentLink1Description: Manufacturer URL; ComponentLink1URL: http://www.ti.com/; ComponentLink2Description: Datasheet; ComponentLink2URL: http://www.ti.com/lit/ds/symlink/ads131e08.pdf; ComponentLink3Description: Package Specification; ComponentLink3URL: http://www.ti.com/lit/ml/mtqf006a/mtqf006a.pdf
footprint TI-PAG64_N (QFP, 64-Leads, Body 10x10mm, Pitch 0.5mm, IPC Medium Density)
footprint TI-PAG64_L (QFP, 64-Leads, Body 10x10mm, Pitch 0.5mm, IPC High Density)
footprint TI-PAG64_M (QFP, 64-Leads, Body 10x10mm, Pitch 0.5mm, IPC Low Density)
part A pins: 1 IN8N (in) "Differential analog negative input 8", 2 IN8P (in) "Differential analog positive input 8", 3 IN7N (in) "Differential analog negative input 7", 4 IN7P (in) "Differential analog positive input 7", 5 IN6N (in) "Differential analog negative input 6", 6 IN6P (in) "Differential analog positive input 6", 7 IN5N (in) "Differential analog negative input 5", 8 IN5P (in) "Differential analog positive input 5", 9 IN4N (in) "Differential analog negative input 4", 10 IN4P (in) "Differential analog positive input 4", 11 IN3N (in) "Differential analog negative input 3", 12 IN3P (in) "Differential analog positive input 3", 13 IN2N (in) "Differential analog negative input 2", 14 IN2P (in) "Differential analog positive input 2", 15 IN1N (in) "Differential analog negative input 1", 16 IN1P (in) "Differential analog positive input 1", 17 TESTP (in) "Internal test signal, positive signal", 18 TESTN (in) "Internal test signal, negative signal", 24 VREFP (in) "Positive reference voltage", 25 VREFN (in) "Negative reference voltage", 26 VCAP4 "Analog bypass capacitor", 28 VCAP1 "Analog bypass capacitor", 30 VCAP2 "Analog bypass capacitor", 34 DIN (in) "SPI data in", 35 ~{PWDN} (in) "Power-down; active low", 36 ~{RESET} (in) "System reset; active low", 37 CLK (in) "Master clock input", 38 START (in) "Start conversion", 39 ~{CS} (in) "SPI chip select; active low", 40 SCLK (in) "SPI clock", 41 DAISY_IN (in) "Daisy-chain input", 42 GPIO1 (io) "General-purpose input/output pin", 43 DOUT (hiz) "SPI data out", 44 GPIO2 (io) "General-purpose input/output pin", 45 GPIO3 (io) "General-purpose input/output pin", 46 GPIO4 (io) "General-purpose input/output pin", 47 ~{DRDY} (out) "Data ready; active low", 52 CLKSEL (in) "Master clock select", 55 VCAP3 "Analog bypass capacitor", 60 OPAMPP (in) "Op amp noninverting input", 61 OPAMPN (in) "Op amp inverting input", 63 OPAMPOUT (out) "Op amp output"
part B pins: 19 AVDD (power) "Analog supply", 20 AVSS (power) "Analog ground", 21 AVDD (power) "Analog supply", 22 AVDD (power) "Analog supply", 23 AVSS (power) "Analog ground", 31 RESV1 (power) "Reserved for future use; must tie to logic low (DGND)", 32 AVSS (power) "Analog ground", 33 DGND (power) "Digital ground", 48 DVDD (power) "Digital power supply", 49 DGND (power) "Digital ground", 50 DVDD (power) "Digital power supply", 51 DGND (power) "Digital ground", 53 AVSS1 (power) "Charge pump analog ground", 54 AVDD1 (power) "Charge pump analog supply", 56 AVDD (power) "Analog supply", 57 AVSS (power) "Analog ground", 58 AVSS (power) "Analog ground", 59 AVDD (power) "Analog supply"
part C pins: 27 NC "No connection, leave floating", 29 NC "No connection, leave floating", 62 NC "No connection, leave floating", 64 NC "No connection, leave floating"

## ADS131E08IPAGR
designator U?
Analog Front-End for Power Monitoring, Control and Protection, -40 to 105 degC, 64-pin QFP (PAG64), Green (RoHS & no Sb/Br); Manufacturer: Texas Instruments; PartNumber: ADS131E08IPAGR; # Input Channels: 8; Analog Voltage AV/DD(Max)(V): 5.25; Analog Voltage AV/DD(Min)(V): 2.7; Architecture: Delta-Sigma; Digital Supply(Max)(V): 3.6; Digital Supply(Min)(V): 1.8; Interface: Serial SPI; Resolution(Bits): 16; Sample Rate(max)(SPS): 64k; SNR(dB): 107; SubFamily: Precision ADC (<=10MSPS); DatasheetVersion: SBAS561A; PackageVersion: 4040282/C, 11/1996; PackageReference: PAG64; PackageDescription: 64-Pin Plastic Flat Pack, Body 10 x 10 mm, Pitch 0.50 mm; Supplier 1: Digi-Key; Supplier Part Number 1: 296-14468-2-ND; Eco-Plan: Green (RoHS & no Sb/Br); Mounting Technology: Surface Mount; Code_JEDEC: MS-026; ComponentLink1Description: Manufacturer URL; ComponentLink1URL: http://www.ti.com/; ComponentLink2Description: Datasheet; ComponentLink2URL: http://www.ti.com/lit/ds/symlink/ads131e08.pdf; ComponentLink3Description: Package Specification; ComponentLink3URL: http://www.ti.com/lit/ml/mtqf006a/mtqf006a.pdf
footprint TI-PAG64_N (QFP, 64-Leads, Body 10x10mm, Pitch 0.5mm, IPC Medium Density)
footprint TI-PAG64_L (QFP, 64-Leads, Body 10x10mm, Pitch 0.5mm, IPC High Density)
footprint TI-PAG64_M (QFP, 64-Leads, Body 10x10mm, Pitch 0.5mm, IPC Low Density)
part A pins: 1 IN8N (in) "Differential analog negative input 8", 2 IN8P (in) "Differential analog positive input 8", 3 IN7N (in) "Differential analog negative input 7", 4 IN7P (in) "Differential analog positive input 7", 5 IN6N (in) "Differential analog negative input 6", 6 IN6P (in) "Differential analog positive input 6", 7 IN5N (in) "Differential analog negative input 5", 8 IN5P (in) "Differential analog positive input 5", 9 IN4N (in) "Differential analog negative input 4", 10 IN4P (in) "Differential analog positive input 4", 11 IN3N (in) "Differential analog negative input 3", 12 IN3P (in) "Differential analog positive input 3", 13 IN2N (in) "Differential analog negative input 2", 14 IN2P (in) "Differential analog positive input 2", 15 IN1N (in) "Differential analog negative input 1", 16 IN1P (in) "Differential analog positive input 1", 17 TESTP (in) "Internal test signal, positive signal", 18 TESTN (in) "Internal test signal, negative signal", 24 VREFP (in) "Positive reference voltage", 25 VREFN (in) "Negative reference voltage", 26 VCAP4 "Analog bypass capacitor", 28 VCAP1 "Analog bypass capacitor", 30 VCAP2 "Analog bypass capacitor", 34 DIN (in) "SPI data in", 35 ~{PWDN} (in) "Power-down; active low", 36 ~{RESET} (in) "System reset; active low", 37 CLK (in) "Master clock input", 38 START (in) "Start conversion", 39 ~{CS} (in) "SPI chip select; active low", 40 SCLK (in) "SPI clock", 41 DAISY_IN (in) "Daisy-chain input", 42 GPIO1 (io) "General-purpose input/output pin", 43 DOUT (hiz) "SPI data out", 44 GPIO2 (io) "General-purpose input/output pin", 45 GPIO3 (io) "General-purpose input/output pin", 46 GPIO4 (io) "General-purpose input/output pin", 47 ~{DRDY} (out) "Data ready; active low", 52 CLKSEL (in) "Master clock select", 55 VCAP3 "Analog bypass capacitor", 60 OPAMPP (in) "Op amp noninverting input", 61 OPAMPN (in) "Op amp inverting input", 63 OPAMPOUT (out) "Op amp output"
part B pins: 19 AVDD (power) "Analog supply", 20 AVSS (power) "Analog ground", 21 AVDD (power) "Analog supply", 22 AVDD (power) "Analog supply", 23 AVSS (power) "Analog ground", 31 RESV1 (power) "Reserved for future use; must tie to logic low (DGND)", 32 AVSS (power) "Analog ground", 33 DGND (power) "Digital ground", 48 DVDD (power) "Digital power supply", 49 DGND (power) "Digital ground", 50 DVDD (power) "Digital power supply", 51 DGND (power) "Digital ground", 53 AVSS1 (power) "Charge pump analog ground", 54 AVDD1 (power) "Charge pump analog supply", 56 AVDD (power) "Analog supply", 57 AVSS (power) "Analog ground", 58 AVSS (power) "Analog ground", 59 AVDD (power) "Analog supply"
part C pins: 27 NC "No connection, leave floating", 29 NC "No connection, leave floating", 62 NC "No connection, leave floating", 64 NC "No connection, leave floating"

## ADS574JE
designator U?
Microprocessor-Compatible Sampling CMOS ADC, -40 to 85 degC, 28-pin DIP (NT28), Green (RoHS & no Sb/Br); Manufacturer: Texas Instruments; PartNumber: ADS574JE; # Input Channels: 1; Analog Voltage AV/DD(Max)(V): 5.5; Analog Voltage AV/DD(Min)(V): 4.5; Architecture: SAR; Interface: Parallel CMOS; Resolution(Bits): 12; SFDR(dB): 78; SINAD(dB): 71; SNR(dB): 72; SubFamily: Precision ADC (<=10MSPS); DatasheetVersion: SBAS009; PackageVersion: 4040050/C, 04/2009; PackageReference: NT28; PackageDescription: 28-Pin Plastic Dual-In-Line Package, Body 35.69 x 6.73 mm, Pitch 2.54 mm; Supplier 1: Digi-Key; Supplier Part Number 1: ADS1110A7IDBVTG4-ND; Digital Supply(Max)(V): 5.5; Digital Supply(Min)(V): 4.5; Eco-Plan: Green (RoHS & no Sb/Br); INL(Max)(+/-LSB): 1; Mounting Technology: Through Hole; ComponentLink1Description: Manufacturer URL; ComponentLink1URL: http://www.ti.com/; ComponentLink2Description: Datasheet; ComponentLink2URL: http://www.ti.com/general/docs/lit/getliterature.tsp?genericPartNumber=ADS574&fileType=pdf; ComponentLink3Description: Package Specification; ComponentLink3URL: http://www.ti.com/lit/ml/mpdi004a/mpdi004a.pdf
footprint TI-NT28 (DIP, 28-Leads, Body 35.69x6.73mm, Pitch 2.54mm)
pins: 1 VDD (power), 2 12/~{8} (in), 3 ~{CS} (in), 4 AO (in), 5 R/~{C} (in), 6 CE (in), 7 NC, 8 2.5V REFOUT (out), 9 ANALOG COMMON (power), 10 2.5V REFIN (in), 11 VEE (power), 12 BIPOLAR OFFSET (in), 13 10V RANGE (in), 14 20V RANGE (in), 15 DIGITAL COMMON (power), 16 DB0 (LSB) (hiz), 17 DB1 (hiz), 18 DB2 (hiz), 19 DB3 (hiz), 20 DB4 (hiz), 21 DB5 (hiz), 22 DB6 (hiz), 23 DB7 (hiz), 24 DB8 (hiz), 25 DB9 (hiz), 26 DB10 (hiz), 27 DB11 (MSB) (hiz), 28 STATUS (out)

## ADS574JEG4
designator U?
Microprocessor-Compatible Sampling CMOS ADC, -40 to 85 degC, 28-pin DIP (NT28), Green (RoHS & no Sb/Br); Manufacturer: Texas Instruments; PartNumber: ADS574JEG4; # Input Channels: 1; Analog Voltage AV/DD(Max)(V): 5.5; Analog Voltage AV/DD(Min)(V): 4.5; Architecture: SAR; Interface: Parallel CMOS; Resolution(Bits): 12; SFDR(dB): 78; SINAD(dB): 71; SNR(dB): 72; SubFamily: Precision ADC (<=10MSPS); DatasheetVersion: SBAS009; PackageVersion: 4040050/C, 04/2009; PackageReference: NT28; PackageDescription: 28-Pin Plastic Dual-In-Line Package, Body 35.69 x 6.73 mm, Pitch 2.54 mm; Supplier 1: Digi-Key; Supplier Part Number 1: ADS1100A0IDBVR-ND; Digital Supply(Max)(V): 5.5; Digital Supply(Min)(V): 4.5; Eco-Plan: Green (RoHS & no Sb/Br); INL(Max)(+/-LSB): 1; Mounting Technology: Through Hole; ComponentLink1Description: Manufacturer URL; ComponentLink1URL: http://www.ti.com/; ComponentLink2Description: Datasheet; ComponentLink2URL: http://www.ti.com/general/docs/lit/getliterature.tsp?genericPartNumber=ADS574&fileType=pdf; ComponentLink3Description: Package Specification; ComponentLink3URL: http://www.ti.com/lit/ml/mpdi004a/mpdi004a.pdf
footprint TI-NT28 (DIP, 28-Leads, Body 35.69x6.73mm, Pitch 2.54mm)
pins: 1 VDD (power), 2 12/~{8} (in), 3 ~{CS} (in), 4 AO (in), 5 R/~{C} (in), 6 CE (in), 7 NC, 8 2.5V REFOUT (out), 9 ANALOG COMMON (power), 10 2.5V REFIN (in), 11 VEE (power), 12 BIPOLAR OFFSET (in), 13 10V RANGE (in), 14 20V RANGE (in), 15 DIGITAL COMMON (power), 16 DB0 (LSB) (hiz), 17 DB1 (hiz), 18 DB2 (hiz), 19 DB3 (hiz), 20 DB4 (hiz), 21 DB5 (hiz), 22 DB6 (hiz), 23 DB7 (hiz), 24 DB8 (hiz), 25 DB9 (hiz), 26 DB10 (hiz), 27 DB11 (MSB) (hiz), 28 STATUS (out)

## ADS574JP
designator U?
Microprocessor-Compatible Sampling CMOS ADC, -40 to 85 degC, 28-pin DIP (NTD28), Green (RoHS & no Sb/Br); Manufacturer: Texas Instruments; PartNumber: ADS574JP; # Input Channels: 1; Analog Voltage AV/DD(Max)(V): 5.5; Analog Voltage AV/DD(Min)(V): 4.5; Architecture: SAR; Interface: Parallel CMOS; Resolution(Bits): 12; SFDR(dB): 78; SINAD(dB): 71; SNR(dB): 72; SubFamily: Precision ADC (<=10MSPS); DatasheetVersion: SBAS009; PackageVersion: 4202496/A, 03/2001; PackageReference: NTD28; PackageDescription: 28-Pin Plastic Dual-In-Line, Body 37.4 x 13.525 mm, Pitch 2.54 mm; Supplier 1: Digi-Key; Supplier Part Number 1: ADS1100A0IDBVRG4-ND; Digital Supply(Max)(V): 5.5; Digital Supply(Min)(V): 4.5; Eco-Plan: Green (RoHS & no Sb/Br); INL(Max)(+/-LSB): 1; Mounting Technology: Through Hole; Code_JEDEC: MS-011-AB; ComponentLink1Description: Manufacturer URL; ComponentLink1URL: http://www.ti.com/; ComponentLink2Description: Datasheet; ComponentLink2URL: http://www.ti.com/general/docs/lit/getliterature.tsp?genericPartNumber=ADS574&fileType=pdf; ComponentLink3Description: Package Specification; ComponentLink3URL: http://www.ti.com/litv/pdf/mpdi056
footprint TI-NTD28 (DIP, 28-Leads, Body 37.4x13.525mm, Pitch 2.54mm)
pins: 1 VDD (power), 2 12/~{8} (in), 3 ~{CS} (in), 4 AO (in), 5 R/~{C} (in), 6 CE (in), 7 NC, 8 2.5V REFOUT (out), 9 ANALOG COMMON (power), 10 2.5V REFIN (in), 11 VEE (power), 12 BIPOLAR OFFSET (in), 13 10V RANGE (in), 14 20V RANGE (in), 15 DIGITAL COMMON (power), 16 DB0 (LSB) (hiz), 17 DB1 (hiz), 18 DB2 (hiz), 19 DB3 (hiz), 20 DB4 (hiz), 21 DB5 (hiz), 22 DB6 (hiz), 23 DB7 (hiz), 24 DB8 (hiz), 25 DB9 (hiz), 26 DB10 (hiz), 27 DB11 (MSB) (hiz), 28 STATUS (out)

## ADS574JPG4
designator U?
Microprocessor-Compatible Sampling CMOS ADC, -40 to 85 degC, 28-pin DIP (NTD28), Green (RoHS & no Sb/Br); Manufacturer: Texas Instruments; PartNumber: ADS574JPG4; # Input Channels: 1; Analog Voltage AV/DD(Max)(V): 5.5; Analog Voltage AV/DD(Min)(V): 4.5; Architecture: SAR; Interface: Parallel CMOS; Resolution(Bits): 12; SFDR(dB): 78; SINAD(dB): 71; SNR(dB): 72; SubFamily: Precision ADC (<=10MSPS); DatasheetVersion: SBAS009; PackageVersion: 4202496/A, 03/2001; PackageReference: NTD28; PackageDescription: 28-Pin Plastic Dual-In-Line, Body 37.4 x 13.525 mm, Pitch 2.54 mm; Supplier 1: Digi-Key; Supplier Part Number 1: 296-12966-2-ND; Digital Supply(Max)(V): 5.5; Digital Supply(Min)(V): 4.5; Eco-Plan: Green (RoHS & no Sb/Br); INL(Max)(+/-LSB): 1; Mounting Technology: Through Hole; Code_JEDEC: MS-011-AB; ComponentLink1Description: Manufacturer URL; ComponentLink1URL: http://www.ti.com/; ComponentLink2Description: Datasheet; ComponentLink2URL: http://www.ti.com/general/docs/lit/getliterature.tsp?genericPartNumber=ADS574&fileType=pdf; ComponentLink3Description: Package Specification; ComponentLink3URL: http://www.ti.com/litv/pdf/mpdi056
footprint TI-NTD28 (DIP, 28-Leads, Body 37.4x13.525mm, Pitch 2.54mm)
pins: 1 VDD (power), 2 12/~{8} (in), 3 ~{CS} (in), 4 AO (in), 5 R/~{C} (in), 6 CE (in), 7 NC, 8 2.5V REFOUT (out), 9 ANALOG COMMON (power), 10 2.5V REFIN (in), 11 VEE (power), 12 BIPOLAR OFFSET (in), 13 10V RANGE (in), 14 20V RANGE (in), 15 DIGITAL COMMON (power), 16 DB0 (LSB) (hiz), 17 DB1 (hiz), 18 DB2 (hiz), 19 DB3 (hiz), 20 DB4 (hiz), 21 DB5 (hiz), 22 DB6 (hiz), 23 DB7 (hiz), 24 DB8 (hiz), 25 DB9 (hiz), 26 DB10 (hiz), 27 DB11 (MSB) (hiz), 28 STATUS (out)

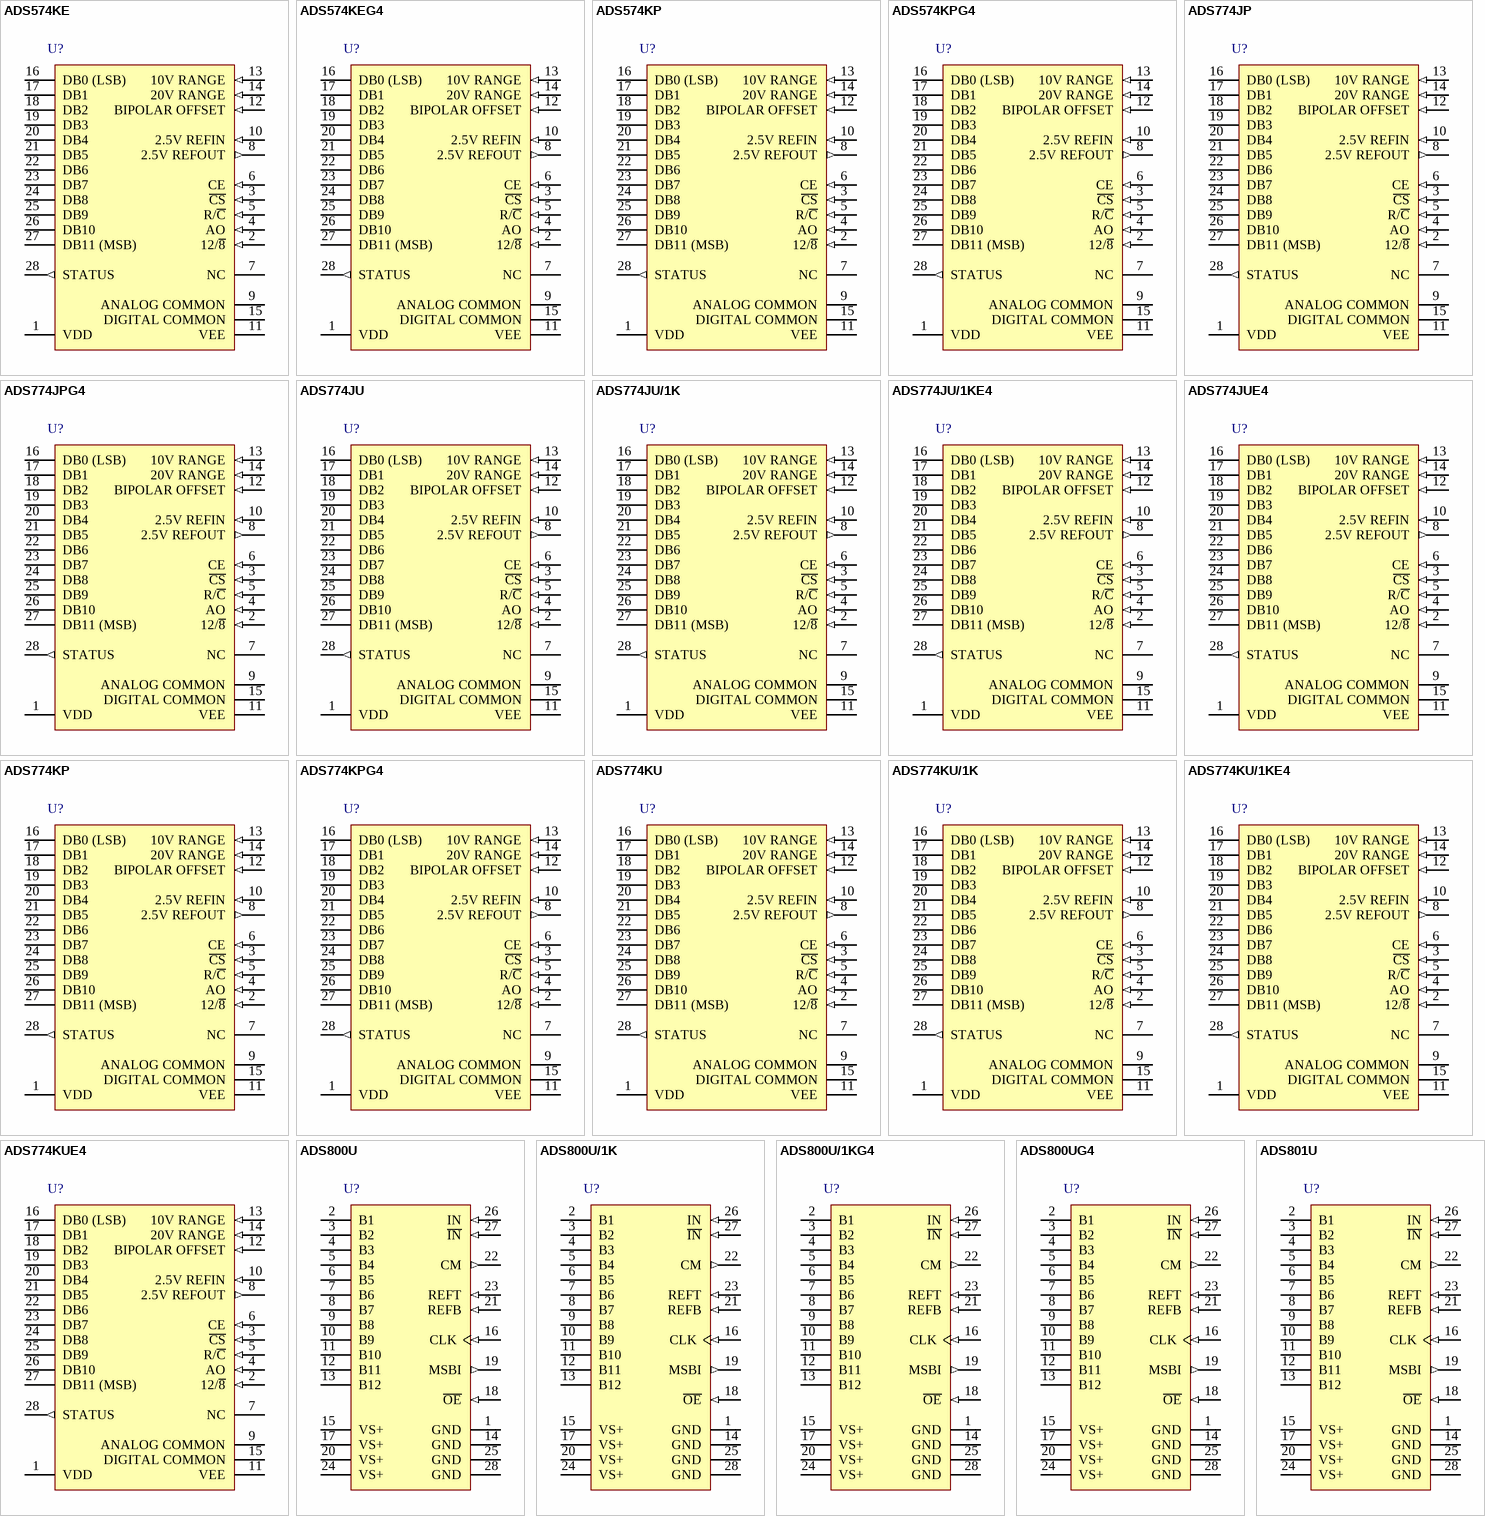
[diagram p7: symbols ADS574KE to ADS801U]

## ADS574KE
designator U?
Microprocessor-Compatible Sampling CMOS ADC, -40 to 85 degC, 28-pin DIP (NT28), Green (RoHS & no Sb/Br); Manufacturer: Texas Instruments; PartNumber: ADS574KE; # Input Channels: 1; Analog Voltage AV/DD(Max)(V): 5.5; Analog Voltage AV/DD(Min)(V): 4.5; Architecture: SAR; INL(Max)(+/-LSB): 0.5; Interface: Parallel CMOS; Resolution(Bits): 12; SFDR(dB): 78; SINAD(dB): 71; SNR(dB): 72; SubFamily: Precision ADC (<=10MSPS); DatasheetVersion: SBAS009; PackageVersion: 4040050/C, 04/2009; PackageReference: NT28; PackageDescription: 28-Pin Plastic Dual-In-Line Package, Body 35.69 x 6.73 mm, Pitch 2.54 mm; Supplier 1: Digi-Key; Supplier Part Number 1: ADS1100A0IDBVTG4-ND; Digital Supply(Max)(V): 5.5; Digital Supply(Min)(V): 4.5; Eco-Plan: Green (RoHS & no Sb/Br); Mounting Technology: Through Hole; ComponentLink1Description: Manufacturer URL; ComponentLink1URL: http://www.ti.com/; ComponentLink2Description: Datasheet; ComponentLink2URL: http://www.ti.com/general/docs/lit/getliterature.tsp?genericPartNumber=ADS574&fileType=pdf; ComponentLink3Description: Package Specification; ComponentLink3URL: http://www.ti.com/lit/ml/mpdi004a/mpdi004a.pdf
footprint TI-NT28 (DIP, 28-Leads, Body 35.69x6.73mm, Pitch 2.54mm)
pins: 1 VDD (power), 2 12/~{8} (in), 3 ~{CS} (in), 4 AO (in), 5 R/~{C} (in), 6 CE (in), 7 NC, 8 2.5V REFOUT (out), 9 ANALOG COMMON (power), 10 2.5V REFIN (in), 11 VEE (power), 12 BIPOLAR OFFSET (in), 13 10V RANGE (in), 14 20V RANGE (in), 15 DIGITAL COMMON (power), 16 DB0 (LSB) (hiz), 17 DB1 (hiz), 18 DB2 (hiz), 19 DB3 (hiz), 20 DB4 (hiz), 21 DB5 (hiz), 22 DB6 (hiz), 23 DB7 (hiz), 24 DB8 (hiz), 25 DB9 (hiz), 26 DB10 (hiz), 27 DB11 (MSB) (hiz), 28 STATUS (out)

## ADS574KEG4
designator U?
Microprocessor-Compatible Sampling CMOS ADC, -40 to 85 degC, 28-pin DIP (NT28), Green (RoHS & no Sb/Br); Manufacturer: Texas Instruments; PartNumber: ADS574KEG4; # Input Channels: 1; Analog Voltage AV/DD(Max)(V): 5.5; Analog Voltage AV/DD(Min)(V): 4.5; Architecture: SAR; INL(Max)(+/-LSB): 0.5; Interface: Parallel CMOS; Resolution(Bits): 12; SFDR(dB): 78; SINAD(dB): 71; SNR(dB): 72; SubFamily: Precision ADC (<=10MSPS); DatasheetVersion: SBAS009; PackageVersion: 4040050/C, 04/2009; PackageReference: NT28; PackageDescription: 28-Pin Plastic Dual-In-Line Package, Body 35.69 x 6.73 mm, Pitch 2.54 mm; Supplier 1: Digi-Key; Supplier Part Number 1: ADS1100A1IDBVR-ND; Digital Supply(Max)(V): 5.5; Digital Supply(Min)(V): 4.5; Eco-Plan: Green (RoHS & no Sb/Br); Mounting Technology: Through Hole; ComponentLink1Description: Manufacturer URL; ComponentLink1URL: http://www.ti.com/; ComponentLink2Description: Datasheet; ComponentLink2URL: http://www.ti.com/general/docs/lit/getliterature.tsp?genericPartNumber=ADS574&fileType=pdf; ComponentLink3Description: Package Specification; ComponentLink3URL: http://www.ti.com/lit/ml/mpdi004a/mpdi004a.pdf
footprint TI-NT28 (DIP, 28-Leads, Body 35.69x6.73mm, Pitch 2.54mm)
pins: 1 VDD (power), 2 12/~{8} (in), 3 ~{CS} (in), 4 AO (in), 5 R/~{C} (in), 6 CE (in), 7 NC, 8 2.5V REFOUT (out), 9 ANALOG COMMON (power), 10 2.5V REFIN (in), 11 VEE (power), 12 BIPOLAR OFFSET (in), 13 10V RANGE (in), 14 20V RANGE (in), 15 DIGITAL COMMON (power), 16 DB0 (LSB) (hiz), 17 DB1 (hiz), 18 DB2 (hiz), 19 DB3 (hiz), 20 DB4 (hiz), 21 DB5 (hiz), 22 DB6 (hiz), 23 DB7 (hiz), 24 DB8 (hiz), 25 DB9 (hiz), 26 DB10 (hiz), 27 DB11 (MSB) (hiz), 28 STATUS (out)